# Altium footprint library USB_C-918-418K2024F40202.PcbLib: 1 footprints
Each footprint in its own frame and in the unit in brackets; x right, y up, seen from the top. Pads: shape width x height; smd on the part's side, far side on the other; paste and mask are expansions set on the pad; w line width, h text height; cw(c..) or ccw(c..) is an arc to the next point about the centre after c.
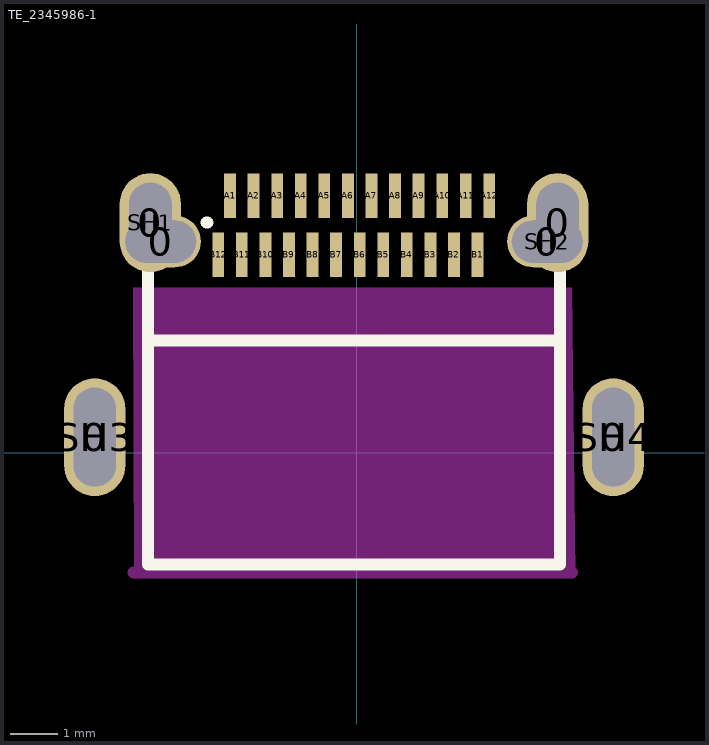
[diagram p0: the footprint, top view; thin cyan lines are the x and y axes]

## TE_2345986-1 [mm]
height 3.16
pads (34):
  oval 1.3x2.5 hole 0.9 slot 2.1 at 90 deg paste-2539.97 mask+0.051: 0(-5.554,0.33) 0(5.446,0.33)
  oval 1.3x2.1 hole 0.9 slot 1.7 at 90 deg paste-2539.97 mask+0.051: 0(-4.374,4.88) 0(4.266,4.88)
  oval 1.7x1.1 hole 0.9 slot 1.5 at 0 deg paste-2539.97 mask+0.051: 0(-4.154,4.48) 0(4.046,4.48)
  rect 0.25x0.95 smd paste+0 mask+0.051: A1(-2.684,5.45) A2(-2.184,5.45) A3(-1.684,5.45) A4(-1.184,5.45) A5(-0.684,5.45) A6(-0.184,5.45) A7(0.316,5.45) A8(0.816,5.45) A9(1.316,5.45) A10(1.816,5.45) A11(2.316,5.45) A12(2.816,5.45) B1(2.566,4.2) B2(2.066,4.2) B3(1.566,4.2) B4(1.066,4.2) B5(0.566,4.2) B6(0.066,4.2) B7(-0.434,4.2) B8(-0.934,4.2) B9(-1.434,4.2) B10(-1.934,4.2) B11(-2.434,4.2) B12(-2.934,4.2)
  round 1.14 hole 0.65 mask+0: SH1(-4.374,4.88) SH2(4.046,4.48)
  oval 1.14x2.44 hole 0.65 slot 1.95 at 90 deg: SH3(-5.554,0.33) SH4(5.446,0.33)
Top Overlay:
  lines w0.254: -4.424,-2.37 4.316,-2.37 4.316,4.88 ; -4.424,-2.32 -4.424,4.88 ; -4.424,2.381 4.316,2.381 ; -3.184,4.88 -3.163,4.88
Keep-Out Layer:
  board cut-out: -4.734,3.51 4.566,3.5 4.636,-2.59 -4.714,-2.59
Keep-Out Layer:
  lines w0.254: -4.734,-2.54 4.576,-2.54
Mechanical 15:
  lines w0.003: -0.054,2.281 -0.054,2.281
3D body "step_temp.STEP": height 3.13, standoff -0.63, extent -4.509,-2.59 4.431,5.51